# Altium schematic symbol library TMR2_SINGLE-SIP8P.SchLib: 1 symbol
Pins are listed as number, name and electrical type; pins without a type are passive.

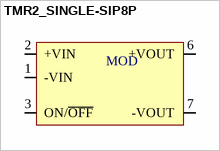
[diagram p0: symbol TMR2_SINGLE-SIP8P]

## TMR2_SINGLE-SIP8P
designator MOD  (value not drawn)
pins: 1 -VIN (power), 2 +VIN (power), 3 ON/~{OFF} (power), 6 +VOUT (power), 7 -VOUT (power)